# EAGLE library part SMXMS-04 (library DIP Switch)
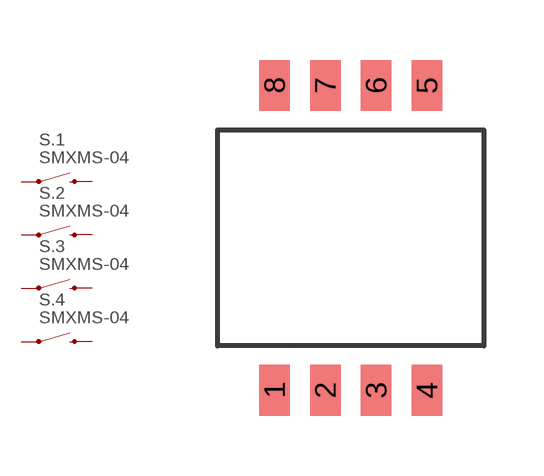
[diagram p1: symbol with the pads of SMXMS-04; footprint SMXMS-04]

Designator prefix S; gates .1=SWITCH .2=SWITCH .3=SWITCH .4=SWITCH

## SMXMS-04  [SMXMS-04]
1  .1:S1  pas
2  .2:S1  pas
3  .3:S1  pas
4  .4:S1  pas
5  .4:S2  pas
6  .3:S2  pas
7  .2:S2  pas
8  .1:S2  pas

## Footprint SMXMS-04 (pad centres in mm)
smd 0.76 x 1.27: 1 -1.905,-3.81; 2 -0.635,-3.81; 3 0.635,-3.81; 4 1.905,-3.81; 5 1.905,3.81; 6 0.635,3.81; 7 -0.635,3.81; 8 -1.905,3.81